# Altium footprint library VI-J00_DCDC_converter.PcbLib: 2 footprints
Each footprint in its own frame and in the unit in brackets; x right, y up, seen from the top. Pads: shape width x height; smd on the part's side, far side on the other; paste and mask are expansions set on the pad; w line width, h text height; cw(c..) or ccw(c..) is an arc to the next point about the centre after c.
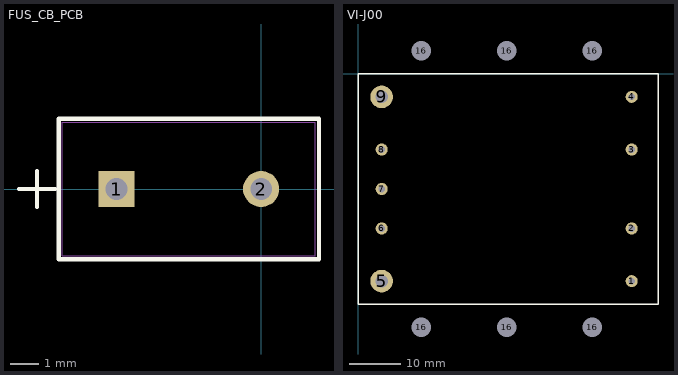
[diagram p0: the footprints below, top view; thin cyan lines are the x and y axes]

## FUS_CB_PCB [mil]
pads (2):
  rect 50x50 hole 30 mask+0: 1(-200,0)
  round 50 hole 30 mask+0: 2(0,0)
Top Overlay:
  lines w6: -335,0 -285,0 ; -310,-25 -310,25 ; -280,-97 -280,97 80,97 80,-97 -280,-97
Mechanical 13:
  lines w1: -335,0 -285,0 ; -310,-25 -310,25 ; -275,-92 -275,92 75,92 75,-92 -275,-92
3D body "FUS_CB_PCB.stp": height 140, standoff -340, extent -275,-92.01 75,92
3D body: height 10, standoff 0, extent 0,0 10,10

## VI-J00 [mil] "Input Voltage: 250 V (100 V - 375 V)  Output Voltage: 12 V  Output Power: 25 W"
height 530
pads (15):
  round 92 hole 50: 1(2080,-1575) 2(2080,-1175) 3(2080,-575) 4(2080,-175) 6(180,-1175) 7(180,-875) 8(180,-575)
  round 172 hole 96: 5(180,-1575) 9(180,-175)
  round 102.36 hole 150 unplated: 16(480,-1925) 16(480,175) 16(1130,-1925) 16(1130,175) 16(1780,-1925) 16(1780,175)
Top Overlay:
  lines w10: 0,-1750 2280,-1750 2280,0 0,0 0,-1750
3D body "03550r17-VI-Jxx-xx.stp": height 525.35, standoff -254.65, extent -8.62,-2075.76 2271.38,324.24